# EAGLE library part MCP7940N (library SCADA_CUSTOM_LIBRARY)
RTC Battery-Backed I2C Real-Time Clock/Calendar with SRAM
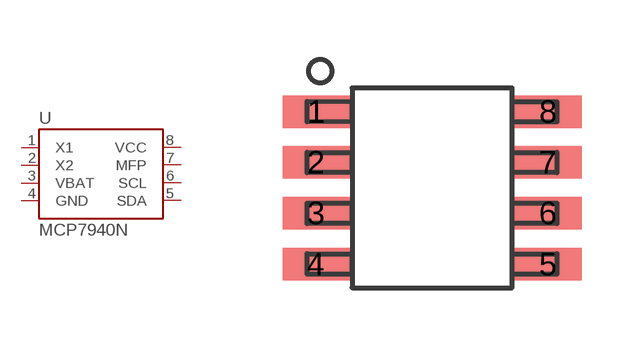
[diagram p15: symbol with the pads of 8-SOIC_HAND_SOLDER; footprint 8-SOIC_HAND_SOLDER]

Designator prefix U

## MCP7940N  [8-SOIC_HAND_SOLDER]
1  X1
2  X2
3  VBAT  pas
4  GND  pas
5  SDA
6  SCL
7  MFP  out
8  VCC  pas

## Footprint 8-SOIC_HAND_SOLDER (pad centres in mm)
smd 1.676 x 0.813: 1 -2.9,1.91; 2 -2.9,0.64; 3 -2.9,-0.63; 4 -2.9,-1.91; 5 2.9,-1.91; 6 2.9,-0.63; 7 2.9,0.64; 8 2.9,1.91